# EAGLE library part STM8L152K6T6 (library SMART LOCK UK)
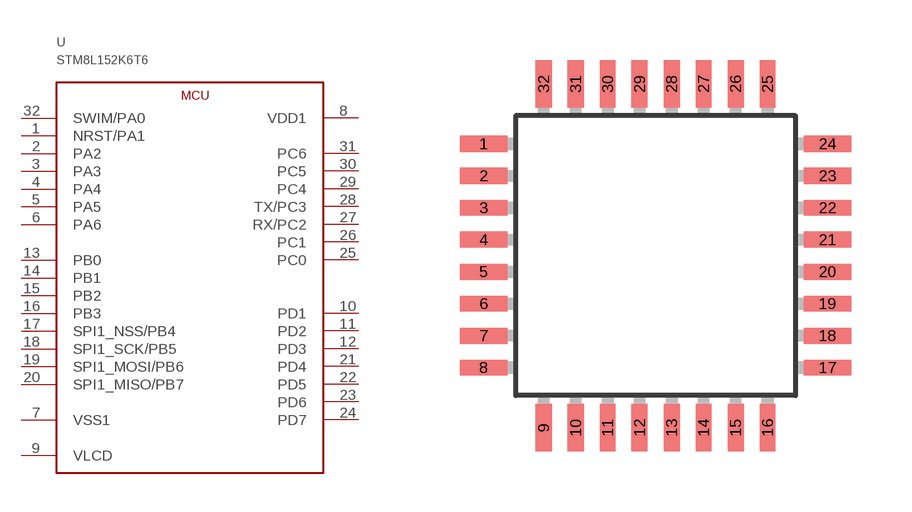
[diagram p1: symbol with the pads of LQFP32-7X7; footprint LQFP32-7X7]

Designator prefix -

## STM8L152K6T6  [LQFP32-7X7]
1  NRST/PA1
2  PA2
3  PA3
4  PA4
5  PA5
6  PA6
7  VSS1
8  VDD1
9  VLCD
10  PD1
11  PD2
12  PD3
13  PB0
14  PB1
15  PB2
16  PB3
17  SPI1_NSS/PB4
18  SPI1_SCK/PB5
19  SPI1_MOSI/PB6
20  SPI1_MISO/PB7
21  PD4
22  PD5
23  PD6
24  PD7
25  PC0
26  PC1
27  RX/PC2
28  TX/PC3
29  PC4
30  PC5
31  PC6
32  SWIM/PA0

## Footprint LQFP32-7X7 (pad centres in mm)
LQFP-32 package 7x7 mm case, 0.8 mm lead pitch Sourced: Data sheet <http://www.st.com/stonline/products/literature/ds/14771/stm8s105c4.pdf>
smd 1.2 x 0.4: 1 -4.3,2.8; 2 -4.3,2; 3 -4.3,1.2; 4 -4.3,0.4; 5 -4.3,-0.4; 6 -4.3,-1.2; 7 -4.3,-2; 8 -4.3,-2.8; 17 4.3,-2.8; 18 4.3,-2; 19 4.3,-1.2; 20 4.3,-0.4; 21 4.3,0.4; 22 4.3,1.2; 23 4.3,2; 24 4.3,2.8
smd 0.4 x 1.2: 9 -2.8,-4.3; 10 -2,-4.3; 11 -1.2,-4.3; 12 -0.4,-4.3; 13 0.4,-4.3; 14 1.2,-4.3; 15 2,-4.3; 16 2.8,-4.3; 25 2.8,4.3; 26 2,4.3; 27 1.2,4.3; 28 0.4,4.3; 29 -0.4,4.3; 30 -1.2,4.3; 31 -2,4.3; 32 -2.8,4.3